# EAGLE library part 2X8 (library headers(.1in)(samtec))
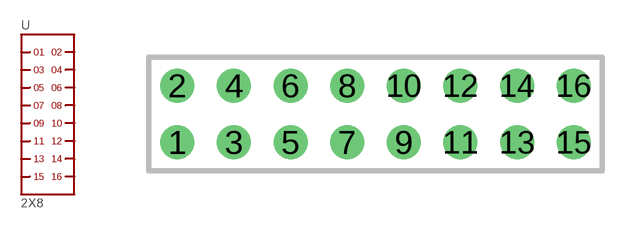
[diagram p3: symbol with the pads of TSW-108-XX-X-D-XXX; footprint TSW-108-XX-X-D-XXX]

Designator prefix -

## 2X8.TSW.D  [TSW-108-XX-X-D-XXX]
1  1
2  2
3  3
4  4
5  5
6  6
7  7
8  8
9  9
10  10
11  11
12  12
13  13
14  14
15  15
16  16

## Footprint TSW-108-XX-X-D-XXX (pad centres in mm)
TERMINAL STRIP, .100 inch(2.54mm) PITCH
drill 1.016 pad 1.524: 1 -8.89,-1.27; 2 -8.89,1.27; 3 -6.35,-1.27; 4 -6.35,1.27; 5 -3.81,-1.27; 6 -3.81,1.27; 7 -1.27,-1.27; 8 -1.27,1.27; 9 1.27,-1.27; 10 1.27,1.27; 11 3.81,-1.27; 12 3.81,1.27; 13 6.35,-1.27; 14 6.35,1.27; 15 8.89,-1.27; 16 8.89,1.27